# Altium schematic symbol library Microphone-Boards.SCHLIB: 9 symbols
Pins are listed as number, name and electrical type; pins without a type are passive.

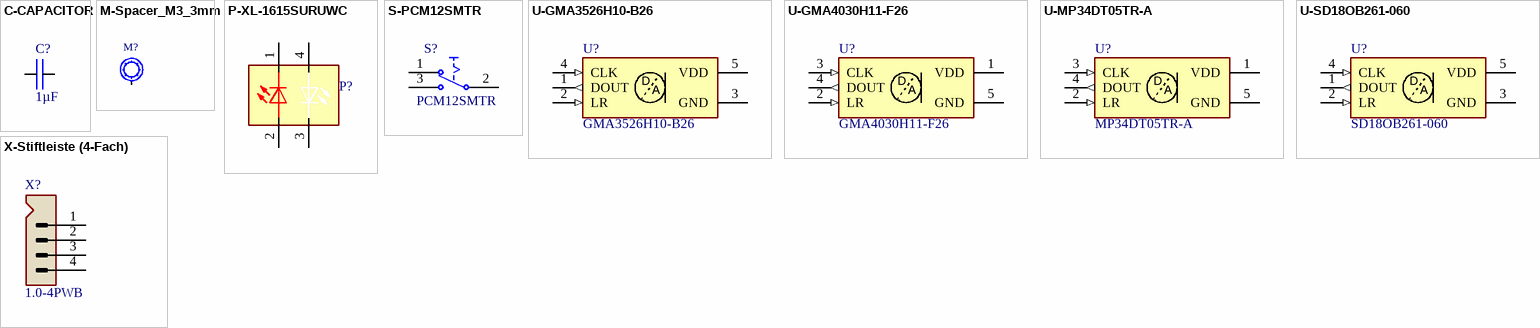
[diagram p0: symbols C-CAPACITOR to X-Stiftleiste (4-Fach)]

## C-CAPACITOR
designator C?, comment 1µF
CAP-MK; Component Description: Multilayer Ceramic Capacitors; Component Value: 1µF 50V; Digikey: 1276-1860-1-ND; Farnell: 3013383; Mouser: 187-CL10A105KB8NNNC; JLC-Parts: C15849; Unit Price: 0.01
footprint SMD Keramikkondensator 0603
pins: 1, 2
1 alternate drawing of the same symbol

## M-Spacer_M3_3mm
designator M?, comment SMTSO-M3-3ET  (value not drawn)
Solderable Standoff Nut; Component Value: M3 3mm; Mouser: 153-SMTSO-M3-3ET; Component Description: Solderable Standoff Nut; Unit Price: 0.05; JLC-Parts: C2915308; ComponentLink1Description: Datasheet; ComponentLink1URL: https://datasheet.lcsc.com/lcsc/2112061830_Sinhoo-SMTSO3030CTJ_C2915308.pdf
footprint SMD Solder-Nut (M3 3mm)
pins: 1

## P-XL-1615SURUWC
designator P?, comment XL-1615SURUWC  (value not drawn)
LED Red/White; Stückpreis: 0.02; Bauteilwert: XL-1615SURUWC; Beschreibung: LED Red/White; ComponentLink1Description: Datasheet; ComponentLink1URL: https://datasheet.lcsc.com/lcsc/2211030000_XINGLIGHT-XL-1615SURUWC_C965837.pdf; JLC-Parts: C965837
footprint SMD LED 1210 (SMD_LED_RED)
pins: 1 RC, 2 RA, 3 WC, 4 WA

## S-PCM12SMTR
designator S?, comment PCM12SMTR
Miniature Slide Switch; Stückpreis: 0.77; Bauteilwert: PCM12SMTR (SPDT); aliExpress: 33002042977; Digikey: 401-2016-1-ND; Beschreibung: Miniature Slide Switch; Mouser: 611-PCM12SMTR; Farnell: 9575146
footprint SMD Switch SPDT (PCM12SMTR)
pins: 1 NC1, 2 COMMON1, 3 NO1

## U-GMA3526H10-B26
designator U?, comment GMA3526H10-B26
Digital PDM MEMS Microphone (Bottom Port); Digikey: 423-1402-1-ND; Mouser: 721-SPH0641LU4H-1; ComponentLink1Description: Datasheet; ComponentLink1URL: https://datasheet.lcsc.com/lcsc/2004081814_INGHAi-GMA3526H10-B26_C498192.pdf; Component Description: Digital PDM MEMS Microphone (Bottom Port); Component Value: GMA3526H10-B26; JLC-Parts: C498192; Unit Price: 1.06
footprint SMD Microphone (MP34DT06JTR)
pins: 1 DOUT (out), 2 LR (in), 3 GND (power), 4 CLK (in), 5 VDD (power)
text: D; A

## U-GMA4030H11-F26
designator U?, comment GMA4030H11-F26
Digital PDM MEMS Microphone (Top Port); Digikey: 423-1210-1-ND; Mouser: 721-SPK0415HM4H-B-7; ComponentLink1Description: Datasheet; ComponentLink1URL: https://datasheet.lcsc.com/lcsc/2005071903_INGHAi-GMA4030H11-F26_C498193.pdf; Component Description: Digital PDM MEMS Microphone (Top Port); Component Value: GMA4030H11-F26; JLC-Parts: C498193; Unit Price: 1.11
footprint SMD Microphone (MP34DT06JTR)
pins: 1 VDD (power), 2 LR (in), 3 CLK (in), 4 DOUT (out), 5 GND (power)
text: D; A

## U-MP34DT05TR-A
designator U?, comment MP34DT05TR-A
Digital PDM MEMS Microphone (Top Port); Digikey: 497-17809-1-ND; Farnell: 2851942; Mouser: 511-MP34DT05TR-A; ComponentLink1Description: Datasheet; ComponentLink1URL: https://datasheet.lcsc.com/lcsc/2106070037_STMicroelectronics-MP34DT05TR-A_C2688664.pdf; Component Description: Digital PDM MEMS Microphone (Top Port); Component Value: MP34DT05TR-A; JLC-Parts: C2688664; Unit Price: 1.50
footprint SMD Microphone (MP34DT06JTR)
pins: 1 VDD (power), 2 LR (in), 3 CLK (in), 4 DOUT (out), 5 GND (power)
text: D; A

## U-SD18OB261-060
designator U?, comment SD18OB261-060
Digital PDM MEMS Microphone (Bottom Port); Digikey: 4719-SD18OB261-050DKR-ND; ComponentLink1Description: Datasheet; ComponentLink1URL: https://datasheet.lcsc.com/lcsc/2208241200_Goertek-SD18OB261-060_C2895290.pdf; Component Description: Digital PDM MEMS Microphone (Bottom Port); Component Value: SD18OB261-060; JLC-Parts: C2895290; Unit Price: 0.61
footprint SMD Microphone (MP34DT06JTR)
pins: 1 DOUT (out), 2 LR (in), 3 GND (power), 4 CLK (in), 5 VDD (power)
text: D; A

## X-Stiftleiste (4-Fach)
designator X?, comment 1.0-4PWB
Wire To Board Connector (1x4P 1.0mm); Digikey: 455-SM04B-SRSS-TBCT-ND; Farnell: 1830839; Component Description: Wire To Board Connector (1x4P 1.0mm); Component Value: 1.0-4PWB; JLC-Parts: C2905006; Unit Price: 0.03
footprint SMD Connector (SM04B-SRSS-TB) (SMD_LED_RED)
pins: 1, 2, 3, 4
1 alternate drawing of the same symbol